# Altium footprint library NEW.PcbLib: 110 footprints (part 6 of 7)
Each footprint in its own frame and in the unit in brackets; x right, y up, seen from the top. Pads: shape width x height; smd on the part's side, far side on the other; paste and mask are expansions set on the pad; w line width, h text height; cw(c..) or ccw(c..) is an arc to the next point about the centre after c.
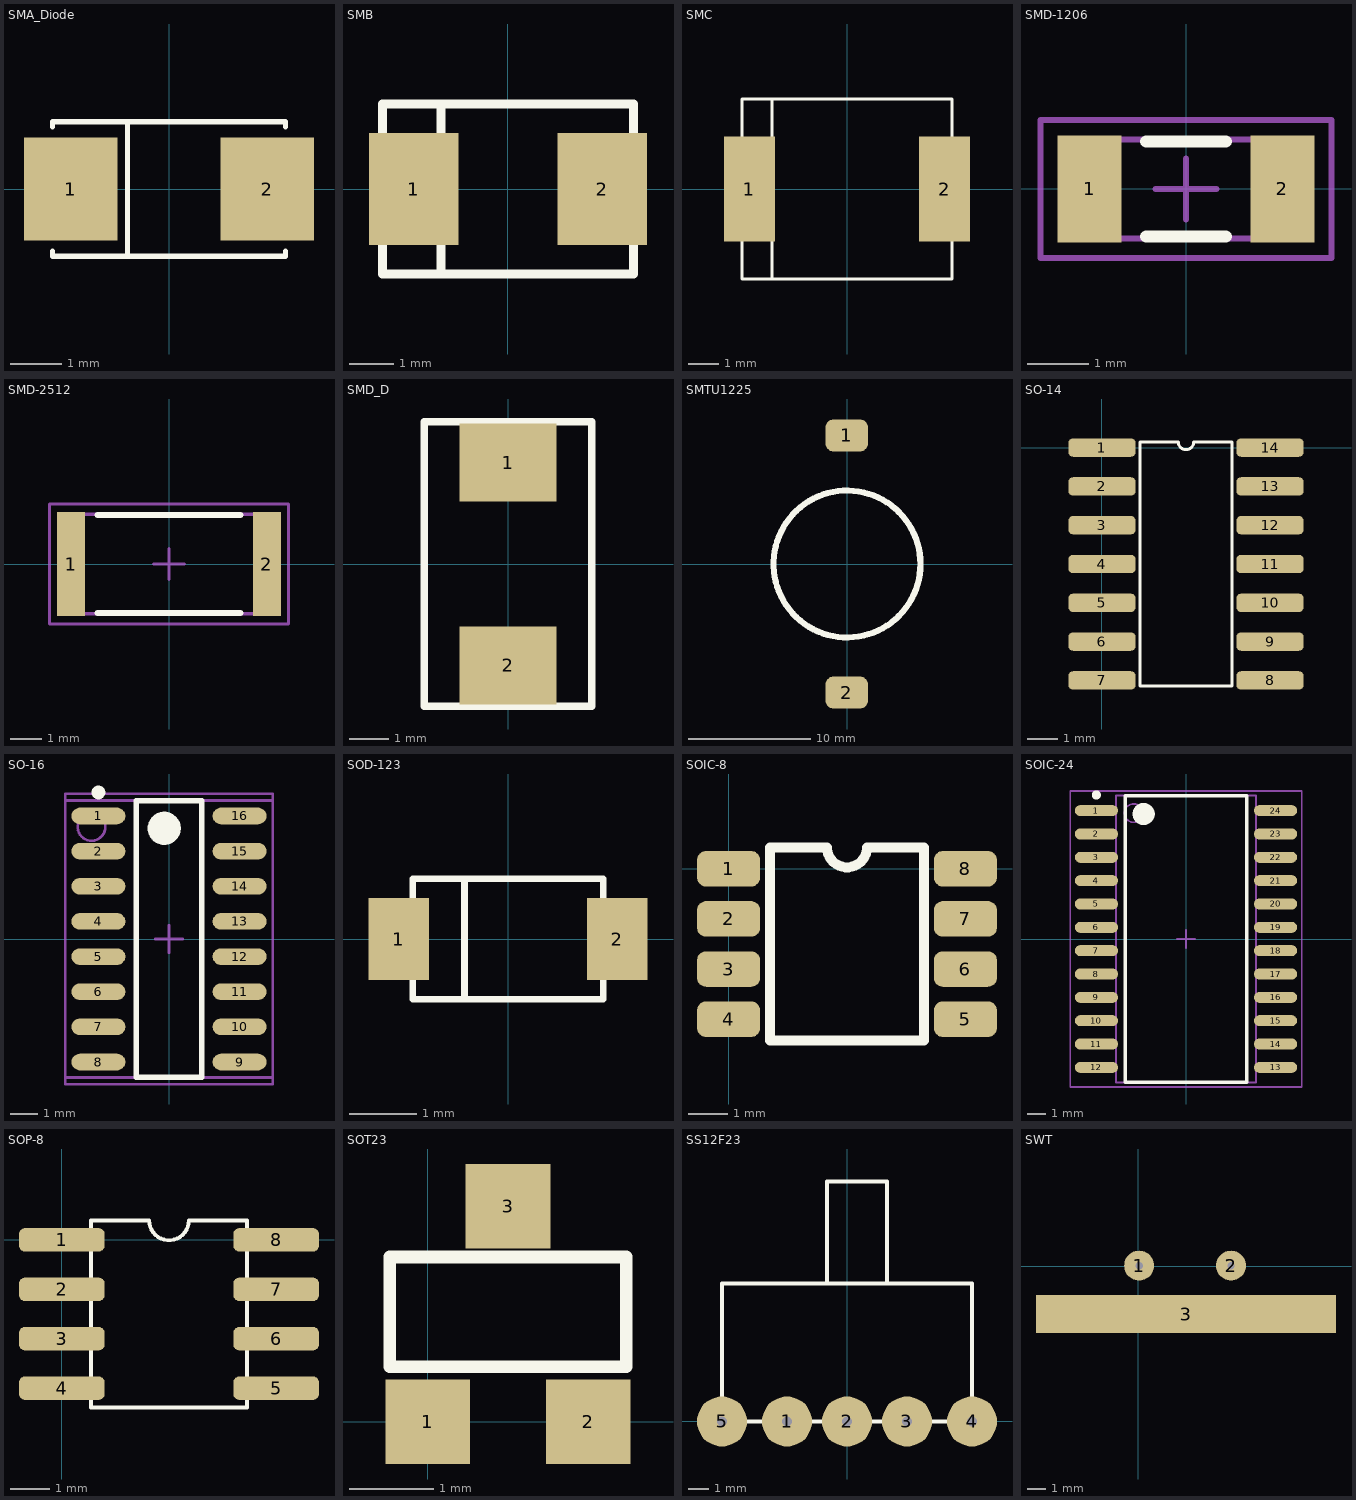
[diagram p5: the footprints below, top view; thin cyan lines are the x and y axes]

## SMA_Diode [mm] "Корпус диода SMA"
height 2.1
pads (2):
  rect 1.8x2 smd: 1(-1.9,0) 2(1.9,0)
Top Overlay:
  lines w0.1: -2.25,-1.2 -2.25,-1.3 2.25,-1.3 2.25,-1.2 ; -2.25,1.2 -2.25,1.3 2.25,1.3 ; -0.8,-1.3 -0.8,1.3 ; 0.35,1.3 2.25,1.3 ; 2.25,1.2 2.25,1.3

## SMB [mm]
height 2.4
pads (2):
  rect 2x2.5 smd: 1(-2.1,0) 2(2.1,0)
Top Overlay:
  lines w0.2: -1.5,-1.9 -1.5,1.9 ; -2.8,-1.9 -2.8,1.9 2.8,1.9 2.8,-1.9 -2.8,-1.9

## SMC [mm] "Корпус SMD диода"
height 2.3
pads (2):
  rect 1.7x3.5 smd: 1(-3.25,0) 2(3.25,0)
Top Overlay:
  lines w0.1: -2.5,-3 -2.5,3 ; -3.5,-3 -3.5,3 3.5,3 3.5,-3 -3.5,-3

## SMD-1206 [mm] "Chip Resistor, 2-Leads, Body 3,3x1,6mm, IPC Medium Density"
height 0.5
pads (2):
  rect 1.05x1.75 smd: 1(-1.575,0) 2(1.575,0)
Top Overlay:
  lines w0.2: -0.65,-0.775 0.65,-0.775 ; -0.65,0.775 0.65,0.775
Mechanical 13:
  lines w0.1: -1.65,-0.81 -1.65,0.81 1.65,0.81 1.65,-0.81 -1.65,-0.81
Mechanical 15:
  lines w0.1: -0.5,0 0.5,0 ; 0,-0.5 0,0.5 ; -2.375,-1.125 -2.375,1.125 2.375,1.125 2.375,-1.125 -2.375,-1.125
3D body: height 0.5, standoff 0, extent -1.65,-0.81 1.65,0.81

## SMD-2512 [mm]
height 0.55
pads (2):
  rect 0.9x3.35 smd: 1(-3.15,0) 2(3.15,0)
Top Overlay:
  lines w0.2: -2.3,-1.575 2.3,-1.575 ; -2.3,1.575 2.3,1.575
Mechanical 13:
  lines w0.1: -3.175,-1.6 -3.175,1.6 3.175,1.6 3.175,-1.6 -3.175,-1.6
Mechanical 15:
  lines w0.1: -0.5,0 0.5,0 ; 0,-0.5 0,0.5 ; -3.85,-1.925 -3.85,1.925 3.85,1.925 3.85,-1.925 -3.85,-1.925
3D body: height 0.55, standoff 0, extent -3.175,-1.6 3.175,1.6

## SMD_D [mm]
height 2.8
pads (2):
  rect 2.5x2 smd: 1(0,2.6) 2(0,-2.6)
Top Overlay:
  lines w0.2: -2.15,-3.65 -2.15,3.65 2.15,3.65 2.15,0.65 2.15,-3.65 -2.15,-3.65

## SMTU1225 [mm]
pads (2):
  rrect50% 3.5x2.6 smd: 1(-0.02,10.5) 2(-0.02,-10.5)
Top Overlay:
  circle w0.5: c0,0 r6

## SO-14 [mm]
pads (14):
  rrect50% 2.2x0.6 smd: 1(0,0) 2(0,-1.27) 3(0,-2.54) 4(0,-3.81) 5(0,-5.08) 6(0,-6.35) 7(0,-7.62) 8(5.5,-7.62) 9(5.5,-6.35) 10(5.5,-5.08) 11(5.5,-3.81) 12(5.5,-2.54) 13(5.5,-1.27) 14(5.5,0)
Top Overlay:
  lines w0.1: 1.25,-7.81 4.25,-7.81 4.25,0.19 3.004,0.19 cw(c2.75,0.19) 2.496,0.19 1.25,0.19 1.25,-7.81

## SO-16 [mm]
height 1.75
pads (16):
  oval 1.95x0.6 smd: 1(-2.55,4.445) 2(-2.55,3.175) 3(-2.55,1.905) 4(-2.55,0.635) 5(-2.55,-0.635) 6(-2.55,-1.905) 7(-2.55,-3.175) 8(-2.55,-4.445) 9(2.55,-4.445) 10(2.55,-3.175) 11(2.55,-1.905) 12(2.55,-0.635) 13(2.55,0.635) 14(2.55,1.905) 15(2.55,3.175) 16(2.55,4.445)
Top Overlay:
  circle w0.6: c-0.175,4 r0.3
  circle w0.25: c-2.55,5.295 r0.125
  lines w0.2: -1.175,-5 1.175,-5 1.175,5 -1.175,5 -1.175,-5
Mechanical 13:
  circle w0.1: c-2.8,4.05 r0.5
  lines w0.1: -3.75,-5 3.75,-5 3.75,5 -3.75,5 -3.75,-5
Mechanical 15:
  lines w0.1: -0.5,0 0.5,0 ; 0,-0.5 0,0.5 ; -3.75,-5.25 3.75,-5.25 3.75,5.25 -3.75,5.25 -3.75,-5.25
3D body: height 1.75, standoff 0.1, extent -3.75,-5 3.75,5

## SOD-123 [mm]
pads (2):
  rect 0.91x1.22 smd: 1(-1.635,0) 2(1.635,0)
Top Overlay:
  lines w0.1: -0.65,-0.9 -0.65,0.9 ; 1.419,-0.9 -1.425,-0.9 -1.425,0.9 1.425,0.9 1.425,-0.9

## SOIC-8 [mm]
pads (8):
  rrect50% 1.6x0.9 smd: 1(0,0) 2(0,-1.27) 3(0,-2.54) 4(0,-3.81) 5(6,-3.81) 6(6,-2.54) 7(6,-1.27) 8(6,0)
Top Overlay:
  lines w0.254: 1.05,-4.355 4.95,-4.355 4.95,0.545 3.508,0.545 cw(c3,0.545) 2.492,0.545 1.05,0.545 1.05,-4.355

## SOIC-24 [mm] "SOIC, 24-Leads, Body 15,6x7,6mm (max), Pitch 1,27mm, IPC Medium Density"
height 2.65
pads (24):
  oval 2.35x0.6 smd: 1(-4.875,6.985) 2(-4.875,5.715) 3(-4.875,4.445) 4(-4.875,3.175) 5(-4.875,1.905) 6(-4.875,0.635) 7(-4.875,-0.635) 8(-4.875,-1.905) 9(-4.875,-3.175) 10(-4.875,-4.445) 11(-4.875,-5.715) 12(-4.875,-6.985) 13(4.875,-6.985) 14(4.875,-5.715) 15(4.875,-4.445) 16(4.875,-3.175) 17(4.875,-1.905) 18(4.875,-0.635) 19(4.875,0.635) 20(4.875,1.905) 21(4.875,3.175) 22(4.875,4.445) 23(4.875,5.715) 24(4.875,6.985)
Top Overlay:
  circle w0.25: c-4.875,7.835 r0.125
  circle w0.6: c-2.3,6.8 r0.3
  lines w0.2: -3.3,-7.8 -3.3,7.8 3.3,7.8 3.3,-7.8 -3.3,-7.8
Mechanical 13:
  circle w0.1: c-2.85,6.85 r0.5
  lines w0.1: -3.8,-7.8 -3.8,7.8 3.8,7.8 3.8,-7.8 -3.8,-7.8
Mechanical 15:
  lines w0.1: -0.5,0 0.5,0 ; 0,-0.5 0,0.5 ; -6.3,-8.05 -6.3,8.05 6.3,8.05 6.3,-8.05 -6.3,-8.05
3D body: height 2.65, standoff 0.2, extent -3.8,-7.8 3.8,7.8

## SOP-8 [mm]
pads (8):
  rrect50% 2.2x0.6 smd: 1(0,0) 2(0,-1.27) 3(0,-2.54) 4(0,-3.81) 5(5.5,-3.81) 6(5.5,-2.54) 7(5.5,-1.27) 8(5.5,0)
Top Overlay:
  lines w0.1: 0.75,-4.305 4.75,-4.305 4.75,0.495 3.258,0.495 cw(c2.75,0.495) 2.242,0.495 0.75,0.495 0.75,-4.305

## SOT23 [mm]
pads (3):
  rect 1x1 smd: 1(0,0) 2(1.9,0) 3(0.95,2.55)
Top Overlay:
  lines w0.15: -0.45,0.65 2.35,0.65 2.35,1.95 -0.45,1.95 -0.45,0.65

## SS12F23 [mm]
height 5.8
pads (5):
  round 2.5 hole 0.5 unplated: 1(-3,0) 2(0,0) 3(3,0) 4(6.25,0) 5(-6.25,0)
Top Overlay:
  lines w0.2: -1,6.9 -1,12 2,12 2,6.9 ; -6.25,0 -6.25,6.9 6.25,6.9 6.25,0 -6.25,0

## SWT [mm]
pads (3):
  round 1.6 hole 0.4: 1(0.04,0.04) 2(4.94,0.04)
  rect 16x2 smd: 3(2.54,-2.54)